# Altium schematic symbol library Driver_Motor.SchLib: 73 symbols
Pins are listed as number, name and electrical type; pins without a type are passive.

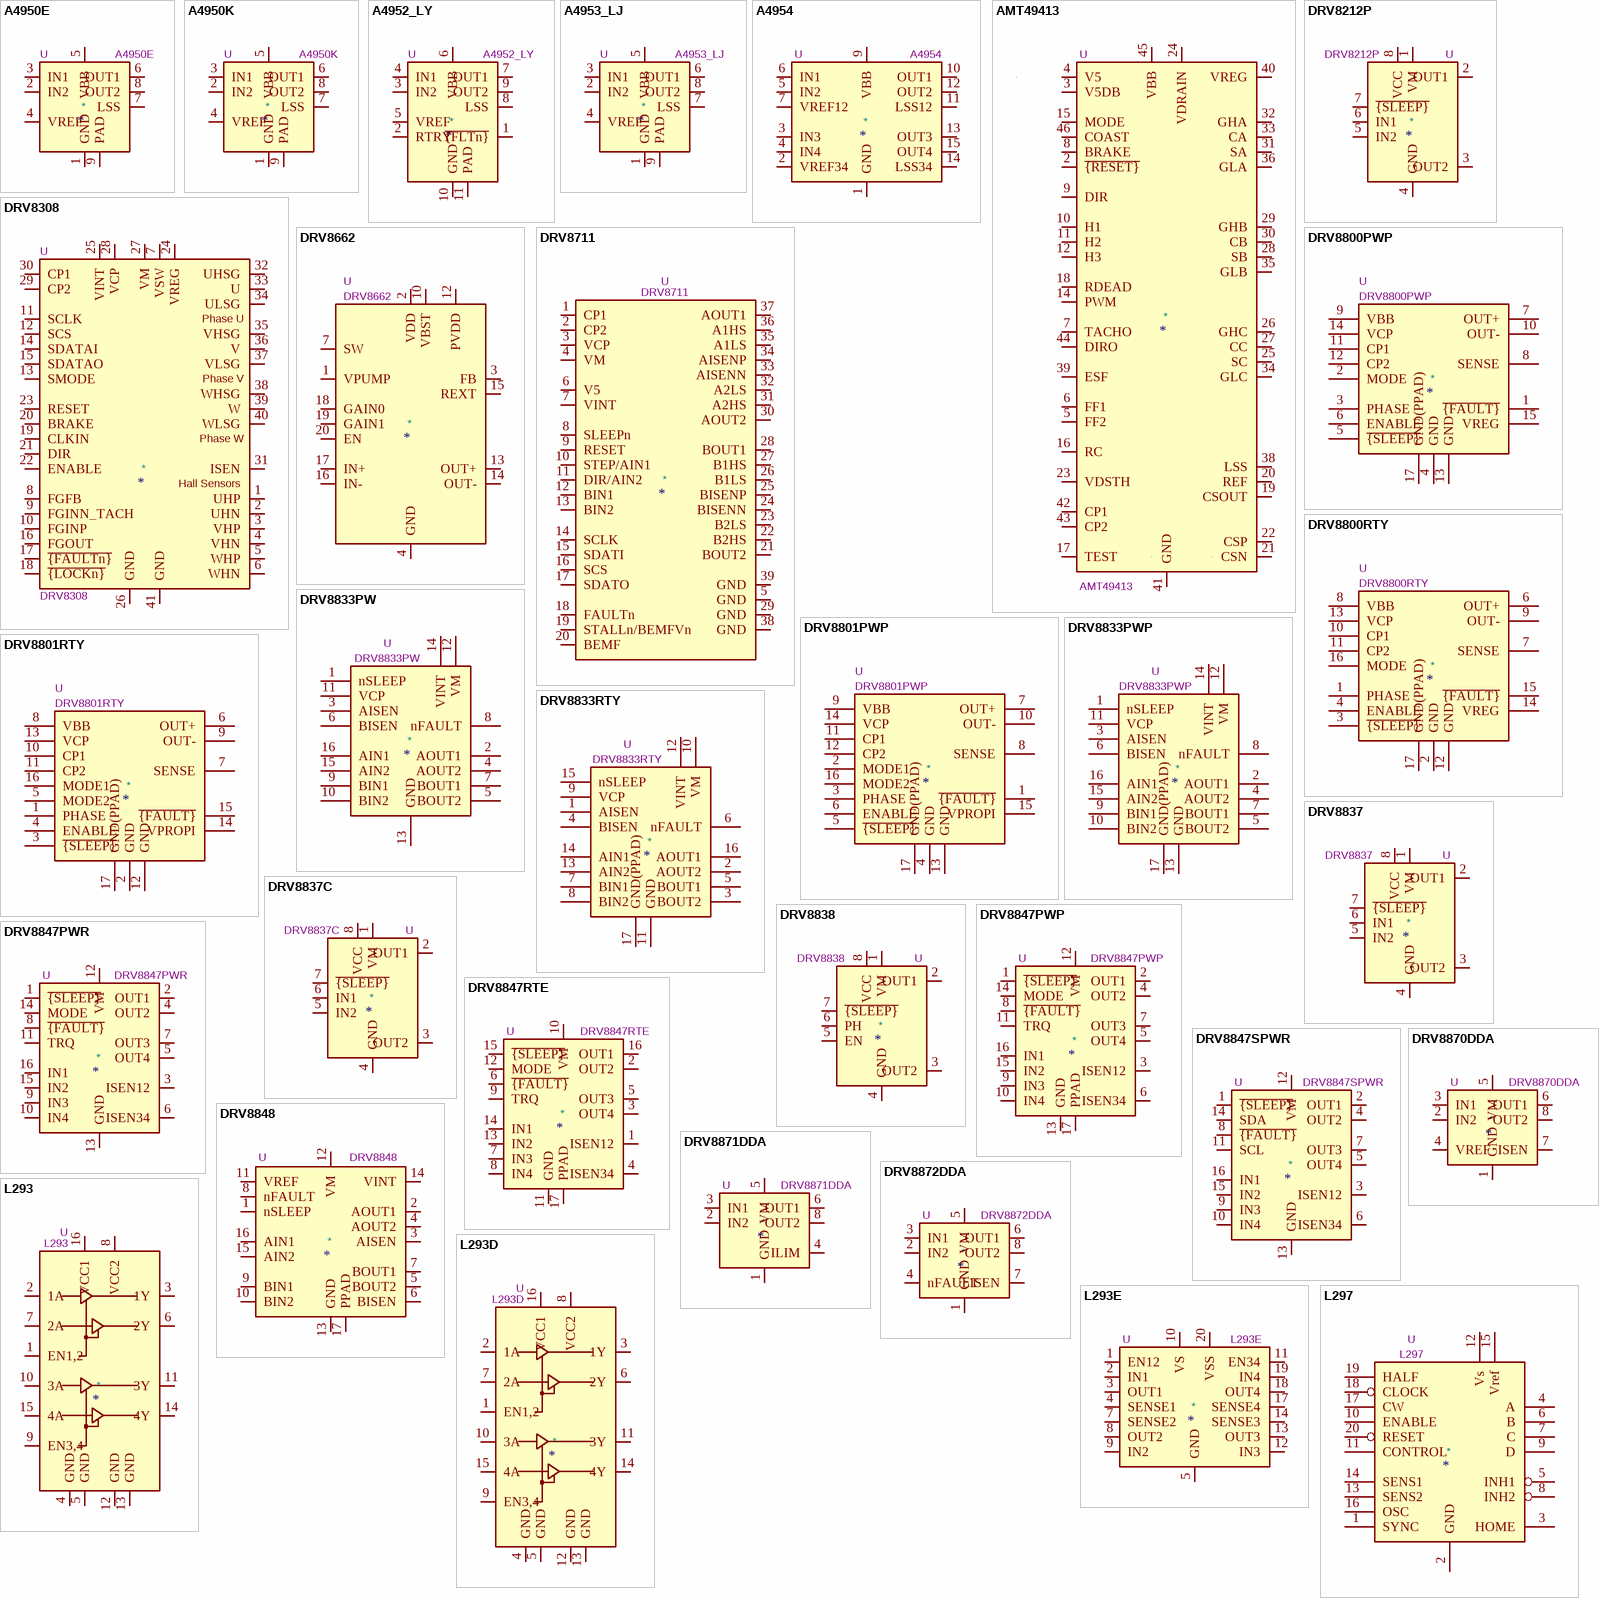
[diagram p0: symbols A4950E to L297]

## A4950E
designator *  value A4950E  Reference: U
ki_keywords: full-bridge h-bridge; ki_description: Full-Bridge, DMOS PWM, Motor Driver, 40V, 3.5A, -40 to +85C; ki_fp_filters: SOIC-*1EP*; Footprint: Package_SO:SOIC-8-1EP_3.9x4.9mm_P1.27mm_EP2.41x3.3mm; Datasheet: http://www.allegromicro.com/~/media/Files/Datasheets/A4950-Datasheet.ashx
pins: 1 GND, 2 IN2, 3 IN1, 4 VREF, 5 VBB, 6 OUT1, 7 LSS, 8 OUT2, 9 PAD

## A4950K
designator *  value A4950K  Reference: U
ki_keywords: full-bridge h-bridge; ki_description: Full-Bridge, DMOS PWM, Motor Driver, 40V, 3.5A, -40 to +125C; ki_fp_filters: SOIC-*1EP*; Footprint: Package_SO:SOIC-8-1EP_3.9x4.9mm_P1.27mm_EP2.41x3.3mm; Datasheet: http://www.allegromicro.com/~/media/Files/Datasheets/A4950-Datasheet.ashx
pins: 1 GND, 2 IN2, 3 IN1, 4 VREF, 5 VBB, 6 OUT1, 7 LSS, 8 OUT2, 9 PAD

## A4952_LY
designator *  value A4952_LY  Reference: U
ki_keywords: Full-bridge h-bridge; ki_description: Full-Bridge, DMOS PWM, Motor Driver, 40V, 2A, MSOP-10; ki_fp_filters: MSOP*1EP*3x3mm*P0.5mm*; Footprint: Package_SO:MSOP-10-1EP_3x3mm_P0.5mm_EP1.73x1.98mm; Datasheet: www.allegromicro.com/~/media/Files/Datasheets/A4952-3-Datasheet.ashx?la=en
pins: 1 ~{{FLTn}}, 2 RTRY, 3 IN2, 4 IN1, 5 VREF, 6 VBB, 7 OUT1, 8 LSS, 9 OUT2, 10 GND, 11 PAD

## A4953_LJ
designator *  value A4953_LJ  Reference: U
ki_keywords: Full-bridge h-bridge; ki_description: Full-Bridge, DMOS PWM, Motor Driver, 40V, 2A, SOIC-8; ki_fp_filters: SOIC-*1EP*; Footprint: Package_SO:SOIC-8-1EP_3.9x4.9mm_P1.27mm_EP2.41x3.3mm; Datasheet: www.allegromicro.com/~/media/Files/Datasheets/A4952-3-Datasheet.ashx?la=en
pins: 1 GND, 2 IN2, 3 IN1, 4 VREF, 5 VBB, 6 OUT1, 7 LSS, 8 OUT2, 9 PAD

## A4954
designator *  value A4954  Reference: U
ki_keywords: Fullbridge, Stepper Driver; ki_description: Fullbridge PWM Motor Driver, UVLO, OCP, Current Limit, Short Circuit Protection, TSSOP-16; ki_fp_filters: TSSOP*1EP*4.4x5mm*P0.65mm*; Footprint: Package_SO:TSSOP-16-1EP_4.4x5mm_P0.65mm_EP3x3mm; Datasheet: https://www.allegromicro.com/-/media/Files/Datasheets/A4954-Datasheet.ashx
pins: 1 GND, 2 VREF34, 3 IN3, 4 IN4, 5 IN2, 6 IN1, 7 VREF12, 8 GND hidden, 9 VBB, 10 OUT1, 11 LSS12, 12 OUT2, 13 OUT3, 14 LSS34, 15 OUT4, 16 VBB hidden, 17 GND hidden

## AMT49413
designator *  value AMT49413  Reference: U
ki_keywords: BLDC 3-Phase; ki_description: 3-Phase BLDC Controller and MOSFET Driver, QFN-48; ki_fp_filters: QFN*1EP*7x7mm*P0.5mm*; Footprint: Package_DFN_QFN:QFN-48-1EP_7x7mm_P0.5mm_EP5.15x5.15mm_ThermalVias; Datasheet: https://www.allegromicro.com/-/media/Files/Datasheets/AMT49413-Datasheet.ashx
pins: 1 N.C. hidden, 2 ~{{RESET}}, 3 V5DB, 4 V5, 5 FF2, 6 FF1, 7 TACHO, 8 BRAKE, 9 DIR, 10 H1, 11 H2, 12 H3, 13 N.C. hidden, 14 PWM, 15 MODE, 16 RC, 17 TEST, 18 RDEAD, 19 CSOUT, 20 REF, 21 CSN, 22 CSP, 23 VDSTH, 24 VDRAIN, 25 SC, 26 GHC, 27 CC, 28 SB, 29 GHB, 30 CB, 31 SA, 32 GHA, 33 CA, 34 GLC, 35 GLB, 36 GLA, 37 N.C. hidden, 38 LSS, 39 ESF, 40 VREG, 41 GND, 42 CP1, 43 CP2, 44 DIRO, 45 VBB, 46 COAST, 47 N.C. hidden, 48 N.C. hidden, 49 GND hidden

## DRV8212P
designator *  value DRV8212P  Reference: U
ki_keywords: half bridge driver; ki_description: H-Bridge driver, 4A, Low Voltage, PWM input, WSON-8; ki_fp_filters: WSON*1EP*2x2mm*P0.5mm*; Footprint: Package_SON:WSON-8-1EP_2x2mm_P0.5mm_EP0.9x1.6mm_ThermalVias; Datasheet: https://www.ti.com/lit/ds/symlink/drv8212p.pdf
pins: 1 VM, 2 OUT1, 3 OUT2, 4 GND, 5 IN2, 6 IN1, 7 ~{{SLEEP}}, 8 VCC, 9 GND hidden

## DRV8308
designator *  value DRV8308  Reference: U
ki_keywords: bldc mosfet-driver hall-sensor; ki_description: Brushless DC motor controller, closed loop, hall sensor inputs, current limiting, SPI interface; ki_fp_filters: Texas*S*PVQFN*N40*3.52x2.62mm*; Footprint: Package_DFN_QFN:Texas_S-PVQFN-N40_EP3.52x2.62mm; Datasheet: http://www.ti.com/lit/ds/symlink/drv8308.pdf
pins: 1 UHP, 2 UHN, 3 VHP, 4 VHN, 5 WHP, 6 WHN, 7 VSW, 8 FGFB, 9 FGINN_TACH, 10 FGINP, 11 SCLK, 12 SCS, 13 SMODE, 14 SDATAI, 15 SDATAO, 16 FGOUT, 17 ~{{FAULTn}}, 18 ~{{LOCKn}}, 19 CLKIN, 20 BRAKE, 21 DIR, 22 ENABLE, 23 RESET, 24 VREG, 25 VINT, 26 GND, 27 VM, 28 VCP, 29 CP2, 30 CP1, 31 ISEN, 32 UHSG, 33 U, 34 ULSG, 35 VHSG, 36 V, 37 VLSG, 38 WHSG, 39 W, 40 WLSG, 41 GND
text: Phase U; Phase V; Phase W; Hall Sensors

## DRV8662
designator *  value DRV8662  Reference: U
ki_keywords: piezo driver boost; ki_description: Piezo Haptic Driver with Integrated Boost Converter; ki_fp_filters: Texas*S*PVQFN*EP2.7x2.7mm*ThermalVias*; Footprint: Package_DFN_QFN:Texas_S-PVQFN-N20_EP2.7x2.7mm_ThermalVias; Datasheet: http://www.ti.com/lit/ds/symlink/drv8662.pdf
pins: 1 VPUMP, 2 VDD, 3 FB, 4 GND, 5 GND hidden, 6 GND hidden, 7 SW, 8 SW hidden, 9 NC hidden, 10 VBST, 11 VBST hidden, 12 PVDD, 13 OUT+, 14 OUT-, 15 REXT, 16 IN-, 17 IN+, 18 GAIN0, 19 GAIN1, 20 EN, 21 GND hidden

## DRV8711
designator *  value DRV8711  Reference: U
ki_keywords: Stepper driver; ki_description: Stepper motor controller, external N-channel MOSFET, single bipolar stepper motor, dual brushed DC motors; ki_fp_filters: HTSSOP-38; Datasheet: http://www.ti.com/lit/ds/slvsc40f/slvsc40f.pdf
pins: 1 CP1, 2 CP2, 3 VCP, 4 VM, 5 GND, 6 V5, 7 VINT, 8 SLEEPn, 9 RESET, 10 STEP/AIN1, 11 DIR/AIN2, 12 BIN1, 13 BIN2, 14 SCLK, 15 SDATI, 16 SCS, 17 SDATO, 18 FAULTn, 19 STALLn/BEMFVn, 20 BEMF, 21 BOUT2, 22 B2HS, 23 B2LS, 24 BISENN, 25 BISENP, 26 B1LS, 27 B1HS, 28 BOUT1, 29 GND, 30 AOUT2, 31 A2HS, 32 A2LS, 33 AISENN, 34 AISENP, 35 A1LS, 36 A1HS, 37 AOUT1, 38 GND, 39 GND

## DRV8800PWP
designator *  value DRV8800PWP  Reference: U
ki_keywords: H-Bridge Motor Driver; ki_description: H-Bridge Motor Driver, TSSOP-16; ki_fp_filters: *TSSOP*4.4x5mm*P0.65mm*; Footprint: Package_SO:HTSSOP-16-1EP_4.4x5mm_P0.65mm_EP3.4x5mm_Mask3x3mm_ThermalVias; Datasheet: http://www.ti.com/lit/ds/symlink/drv8801.pdf
pins: 1 ~{{FAULT}}, 2 MODE, 3 PHASE, 4 GND, 5 ~{{SLEEP}}, 6 ENABLE, 7 OUT+, 8 SENSE, 9 VBB, 10 OUT-, 11 CP1, 12 CP2, 13 GND, 14 VCP, 15 VREG, 16 NC hidden, 17 GND(PPAD)

## DRV8800RTY
designator *  value DRV8800RTY  Reference: U
ki_keywords: H-Bridge Motor Driver; ki_description: H-Bridge Motor Driver, WQFN-16; ki_fp_filters: Texas*S?PWQFN?N*EP*; Footprint: Package_DFN_QFN:Texas_S-PWQFN-N16_EP2.1x2.1mm_ThermalVias; Datasheet: http://www.ti.com/lit/ds/symlink/drv8801.pdf
pins: 1 PHASE, 2 GND, 3 ~{{SLEEP}}, 4 ENABLE, 5 NC hidden, 6 OUT+, 7 SENSE, 8 VBB, 9 OUT-, 10 CP1, 11 CP2, 12 GND, 13 VCP, 14 VREG, 15 ~{{FAULT}}, 16 MODE, 17 GND(PPAD)

## DRV8801PWP
designator *  value DRV8801PWP  Reference: U
ki_keywords: H-Bridge Motor Driver; ki_description: H-Bridge Motor Driver, TSSOP-16; ki_fp_filters: *TSSOP*4.4x5mm*P0.65mm*; Footprint: Package_SO:HTSSOP-16-1EP_4.4x5mm_P0.65mm_EP3.4x5mm_Mask3x3mm_ThermalVias; Datasheet: http://www.ti.com/lit/ds/symlink/drv8801.pdf
pins: 1 ~{{FAULT}}, 2 MODE1, 3 PHASE, 4 GND, 5 ~{{SLEEP}}, 6 ENABLE, 7 OUT+, 8 SENSE, 9 VBB, 10 OUT-, 11 CP1, 12 CP2, 13 GND, 14 VCP, 15 VPROPI, 16 MODE2, 17 GND(PPAD)

## DRV8801RTY
designator *  value DRV8801RTY  Reference: U
ki_keywords: H-Bridge Motor Driver; ki_description: H-Bridge Motor Driver, WQFN-16; ki_fp_filters: Texas*S?PWQFN?N*EP*; Footprint: Package_DFN_QFN:Texas_S-PWQFN-N16_EP2.1x2.1mm_ThermalVias; Datasheet: http://www.ti.com/lit/ds/symlink/drv8801.pdf
pins: 1 PHASE, 2 GND, 3 ~{{SLEEP}}, 4 ENABLE, 5 MODE2, 6 OUT+, 7 SENSE, 8 VBB, 9 OUT-, 10 CP1, 11 CP2, 12 GND, 13 VCP, 14 VPROPI, 15 ~{{FAULT}}, 16 MODE1, 17 GND(PPAD)

## DRV8833PW
designator *  value DRV8833PW  Reference: U
ki_keywords: H-bridge motor driver; ki_description: Dual H-Bridge Motor Driver, TSSOP-16; ki_fp_filters: TSSOP-16*4.4x5mm*P0.65mm*; Footprint: Package_SO:TSSOP-16_4.4x5mm_P0.65mm; Datasheet: http://www.ti.com/lit/ds/symlink/drv8833.pdf
pins: 1 nSLEEP, 2 AOUT1, 3 AISEN, 4 AOUT2, 5 BOUT2, 6 BISEN, 7 BOUT1, 8 nFAULT, 9 BIN1, 10 BIN2, 11 VCP, 12 VM, 13 GND, 14 VINT, 15 AIN2, 16 AIN1

## DRV8833PWP
designator *  value DRV8833PWP  Reference: U
ki_keywords: H-bridge motor driver; ki_description: Dual H-Bridge Motor Driver, HTSSOP-16; ki_fp_filters: HTSSOP-16-1EP*4.4x5mm*P0.65mm*; Footprint: Package_SO:HTSSOP-16-1EP_4.4x5mm_P0.65mm_EP3.4x5mm_Mask2.46x2.31mm_ThermalVias; Datasheet: http://www.ti.com/lit/ds/symlink/drv8833.pdf
pins: 1 nSLEEP, 2 AOUT1, 3 AISEN, 4 AOUT2, 5 BOUT2, 6 BISEN, 7 BOUT1, 8 nFAULT, 9 BIN1, 10 BIN2, 11 VCP, 12 VM, 13 GND, 14 VINT, 15 AIN2, 16 AIN1, 17 GND(PPAD)

## DRV8833RTY
designator *  value DRV8833RTY  Reference: U
ki_keywords: H-bridge motor driver; ki_description: Dual H-Bridge Motor Driver, WQFN-16; ki_fp_filters: Texas*S?PWQFN?N*EP*; Footprint: Package_DFN_QFN:Texas_S-PWQFN-N16_EP2.1x2.1mm_ThermalVias; Datasheet: http://www.ti.com/lit/ds/symlink/drv8833.pdf
pins: 1 AISEN, 2 AOUT2, 3 BOUT2, 4 BISEN, 5 BOUT1, 6 nFAULT, 7 BIN1, 8 BIN2, 9 VCP, 10 VM, 11 GND, 12 VINT, 13 AIN2, 14 AIN1, 15 nSLEEP, 16 AOUT1, 17 GND(PPAD)

## DRV8837
designator *  value DRV8837  Reference: U
ki_keywords: half bridge driver; ki_description: H-Bridge driver, 1.8A, Low Voltage, PWM input, WSON-8; ki_fp_filters: WSON*1EP*2x2mm*P0.5mm*; Footprint: Package_SON:WSON-8-1EP_2x2mm_P0.5mm_EP0.9x1.6mm; Datasheet: http://www.ti.com/lit/ds/symlink/drv8837.pdf
pins: 1 VM, 2 OUT1, 3 OUT2, 4 GND, 5 IN2, 6 IN1, 7 ~{{SLEEP}}, 8 VCC, 9 GND hidden

## DRV8837C
designator *  value DRV8837C  Reference: U
ki_keywords: half bridge driver; ki_description: H-Bridge driver, 1A, Low Voltage, PWM input, WSON-8; ki_fp_filters: WSON*1EP*2x2mm*P0.5mm*; Footprint: Package_SON:WSON-8-1EP_2x2mm_P0.5mm_EP0.9x1.6mm; Datasheet: http://www.ti.com/lit/ds/symlink/drv8837c.pdf
pins: 1 VM, 2 OUT1, 3 OUT2, 4 GND, 5 IN2, 6 IN1, 7 ~{{SLEEP}}, 8 VCC, 9 GND hidden

## DRV8838
designator *  value DRV8838  Reference: U
ki_keywords: half bridge driver; ki_description: H-Bridge driver, 1.8A, Low Voltage, PH/EN input, WSON-8; ki_fp_filters: WSON*1EP*2x2mm*P0.5mm*; Footprint: Package_SON:WSON-8-1EP_2x2mm_P0.5mm_EP0.9x1.6mm; Datasheet: http://www.ti.com/lit/ds/symlink/drv8837.pdf
pins: 1 VM, 2 OUT1, 3 OUT2, 4 GND, 5 EN, 6 PH, 7 ~{{SLEEP}}, 8 VCC, 9 GND hidden

## DRV8847PWP
designator *  value DRV8847PWP  Reference: U
ki_keywords: Dual H-Bridge motor driver; ki_description: Dual H-Bridge Motor Driver, 1A, HTSSOP-16; ki_fp_filters: HTSSOP*1EP*4.4x5mm*P0.65mm*; Footprint: Package_SO:HTSSOP-16-1EP_4.4x5mm_P0.65mm_EP3.4x5mm_Mask2.46x2.31mm_ThermalVias; Datasheet: https://www.ti.com/lit/ds/symlink/drv8847.pdf
pins: 1 ~{{SLEEP}}, 2 OUT1, 3 ISEN12, 4 OUT2, 5 OUT4, 6 ISEN34, 7 OUT3, 8 ~{{FAULT}}, 9 IN3, 10 IN4, 11 TRQ, 12 VM, 13 GND, 14 MODE, 15 IN2, 16 IN1, 17 PPAD

## DRV8847PWR
designator *  value DRV8847PWR  Reference: U
ki_keywords: Dual H-Bridge motor driver; ki_description: Dual H-Bridge Motor Driver, 1A, TSSOP-16; ki_fp_filters: TSSOP*4.4x5mm*P0.65mm*; Footprint: Package_SO:TSSOP-16_4.4x5mm_P0.65mm; Datasheet: https://www.ti.com/lit/ds/symlink/drv8847.pdf
pins: 1 ~{{SLEEP}}, 2 OUT1, 3 ISEN12, 4 OUT2, 5 OUT4, 6 ISEN34, 7 OUT3, 8 ~{{FAULT}}, 9 IN3, 10 IN4, 11 TRQ, 12 VM, 13 GND, 14 MODE, 15 IN2, 16 IN1

## DRV8847RTE
designator *  value DRV8847RTE  Reference: U
ki_keywords: Dual H-Bridge motor driver; ki_description: Dual H-Bridge Motor Driver, 1A, WQFN-16; ki_fp_filters: QFN*1EP*3x3mm*P0.5mm*; Footprint: Package_DFN_QFN:QFN-16-1EP_3x3mm_P0.5mm_EP1.7x1.7mm_ThermalVias; Datasheet: https://www.ti.com/lit/ds/symlink/drv8847.pdf
pins: 1 ISEN12, 2 OUT2, 3 OUT4, 4 ISEN34, 5 OUT3, 6 ~{{FAULT}}, 7 IN3, 8 IN4, 9 TRQ, 10 VM, 11 GND, 12 MODE, 13 IN2, 14 IN1, 15 ~{{SLEEP}}, 16 OUT1, 17 PPAD

## DRV8847SPWR
designator *  value DRV8847SPWR  Reference: U
ki_keywords: Dual H-Bridge motor driver; ki_description: Dual H-Bridge Motor Driver, 1A, I2C Interface, TSSOP-16; ki_fp_filters: TSSOP*4.4x5mm*P0.65mm*; Footprint: Package_SO:TSSOP-16_4.4x5mm_P0.65mm; Datasheet: https://www.ti.com/lit/ds/symlink/drv8847.pdf
pins: 1 ~{{SLEEP}}, 2 OUT1, 3 ISEN12, 4 OUT2, 5 OUT4, 6 ISEN34, 7 OUT3, 8 ~{{FAULT}}, 9 IN3, 10 IN4, 11 SCL, 12 VM, 13 GND, 14 SDA, 15 IN2, 16 IN1

## DRV8848
designator *  value DRV8848  Reference: U
ki_keywords: Dual H-Bridge motor driver; ki_description: Dual H-Bridge motor driver, PWM controlled, single/dual brushed DC stepper, +2 to +18 VDD, TSSOP-16; ki_fp_filters: TSSOP*1EP*4.4x5mm*P0.65mm*; Footprint: Package_SO:TSSOP-16-1EP_4.4x5mm_P0.65mm; Datasheet: http://www.ti.com/lit/ds/symlink/drv8848.pdf
pins: 1 nSLEEP, 2 AOUT1, 3 AISEN, 4 AOUT2, 5 BOUT2, 6 BISEN, 7 BOUT1, 8 nFAULT, 9 BIN1, 10 BIN2, 11 VREF, 12 VM, 13 GND, 14 VINT, 15 AIN2, 16 AIN1, 17 PPAD

## DRV8870DDA
designator *  value DRV8870DDA  Reference: U
ki_keywords: H-bridge driver motor current limit; ki_description: Brushed DC Motor Driver, PWM Control, 45V, 3.6A, Dynamic current limiting, HTSOP-8; ki_fp_filters: Texas*HTSOP*1EP*3.9x4.9mm*P1.27mm*EP2.95x4.9mm*Mask2.4x3.1mm*; Footprint: Package_SO:Texas_HTSOP-8-1EP_3.9x4.9mm_P1.27mm_EP2.95x4.9mm_Mask2.4x3.1mm_ThermalVias; Datasheet: http://www.ti.com/lit/ds/symlink/drv8870.pdf
pins: 1 GND, 2 IN2, 3 IN1, 4 VREF, 5 VM, 6 OUT1, 7 ISEN, 8 OUT2, 9 GND hidden

## DRV8871DDA
designator *  value DRV8871DDA  Reference: U
ki_keywords: H-bridge driver motor current limit; ki_description: Brushed DC Motor Driver, PWM Control, 45V, 3.6A, Current limiting, HTSOP-8; ki_fp_filters: Texas*HTSOP*1EP*3.9x4.9mm*P1.27mm*EP2.95x4.9mm*Mask2.4x3.1mm*; Footprint: Package_SO:Texas_HTSOP-8-1EP_3.9x4.9mm_P1.27mm_EP2.95x4.9mm_Mask2.4x3.1mm_ThermalVias; Datasheet: http://www.ti.com/lit/ds/symlink/drv8871.pdf
pins: 1 GND, 2 IN2, 3 IN1, 4 ILIM, 5 VM, 6 OUT1, 7 GND hidden, 8 OUT2, 9 GND hidden

## DRV8872DDA
designator *  value DRV8872DDA  Reference: U
ki_keywords: H-bridge driver motor current limit; ki_description: Brushed DC Motor Driver, PWM Control, 45V, 3.6A, Current limiting, Fault Reporting, HTSOP-8; ki_fp_filters: Texas*HTSOP*1EP*3.9x4.9mm*P1.27mm*EP2.95x4.9mm*Mask2.4x3.1mm*; Footprint: Package_SO:Texas_HTSOP-8-1EP_3.9x4.9mm_P1.27mm_EP2.95x4.9mm_Mask2.4x3.1mm_ThermalVias; Datasheet: http://www.ti.com/lit/ds/symlink/drv8872.pdf
pins: 1 GND, 2 IN2, 3 IN1, 4 nFAULT, 5 VM, 6 OUT1, 7 ISEN, 8 OUT2, 9 GND hidden

## L293
designator *  value L293  Reference: U
ki_keywords: Half-H Driver Motor; ki_description: Quadruple Half-H Drivers; ki_fp_filters: DIP*W7.62mm*; Footprint: Package_DIP:DIP-16_W7.62mm; Datasheet: http://www.ti.com/lit/ds/symlink/l293.pdf
pins: 1 EN1,2, 2 1A, 3 1Y, 4 GND, 5 GND, 6 2Y, 7 2A, 8 VCC2, 9 EN3,4, 10 3A, 11 3Y, 12 GND, 13 GND, 14 4Y, 15 4A, 16 VCC1

## L293D
designator *  value L293D  Reference: U
ki_keywords: Half-H Driver Motor; ki_description: Quadruple Half-H Drivers; ki_fp_filters: DIP*W7.62mm*; Footprint: Package_DIP:DIP-16_W7.62mm; Datasheet: http://www.ti.com/lit/ds/symlink/l293.pdf
pins: 1 EN1,2, 2 1A, 3 1Y, 4 GND, 5 GND, 6 2Y, 7 2A, 8 VCC2, 9 EN3,4, 10 3A, 11 3Y, 12 GND, 13 GND, 14 4Y, 15 4A, 16 VCC1

## L293E
designator *  value L293E  Reference: U
ki_keywords: Half-H Driver Motor Sense; ki_description: Push-pull four-channel driver, DIP-20; ki_fp_filters: DIP*W7.62mm*; Footprint: Package_DIP:DIP-20_W7.62mm; Datasheet: https://www.st.com/resource/en/datasheet/l293e.pdf
pins: 1 EN12, 2 IN1, 3 OUT1, 4 SENSE1, 5 GND, 6 GND hidden, 7 SENSE2, 8 OUT2, 9 IN2, 10 VS, 11 EN34, 12 IN3, 13 OUT3, 14 SENSE3, 15 GND hidden, 16 GND hidden, 17 SENSE4, 18 OUT4, 19 IN4, 20 VSS

## L297
designator *  value L297  Reference: U
ki_keywords: Stepper Motor Controller; ki_description: Stepper Motor Controller, DIP-20/SO-20; ki_fp_filters: DIP* SO*; Datasheet: www.st.com/resource/en/datasheet/cd00000063.pdf
pins: 1 SYNC, 2 GND, 3 HOME, 4 A, 5 INH1, 6 B, 7 C, 8 INH2, 9 D, 10 ENABLE, 11 CONTROL, 12 Vs, 13 SENS2, 14 SENS1, 15 Vref, 16 OSC, 17 CW, 18 CLOCK, 19 HALF, 20 RESET

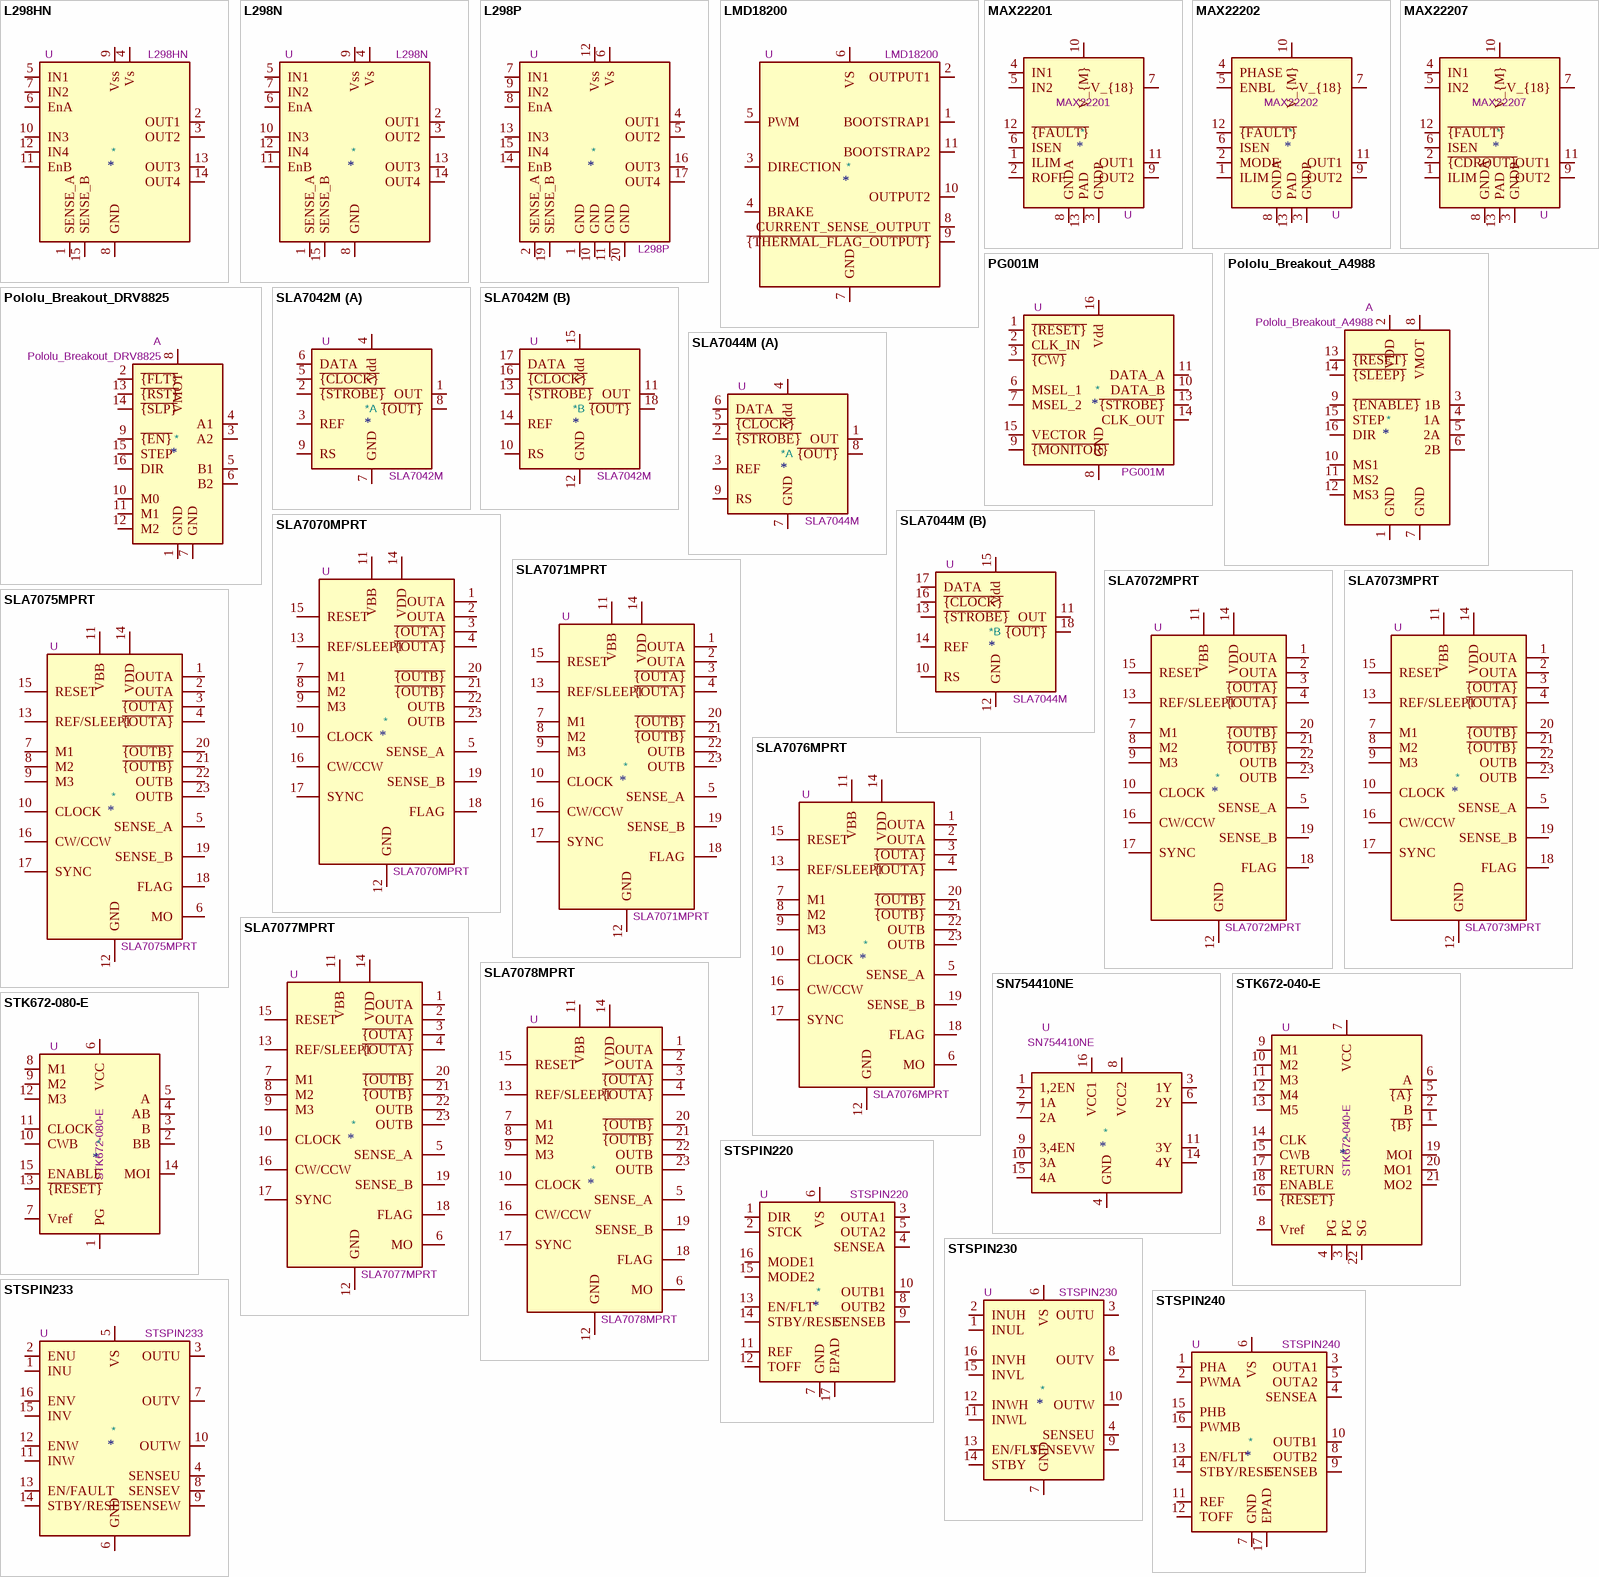
[diagram p1: symbols L298HN to STSPIN240]

## L298HN
designator *  value L298HN  Reference: U
ki_keywords: H-bridge motor driver; ki_description: Dual full bridge motor driver, up to 46V, 4A, Multiwatt15-H; ki_fp_filters: TO?220*StaggerOdd*TabDown*; Footprint: Package_TO_SOT_THT:TO-220-15_P2.54x2.54mm_StaggerOdd_Lead5.84mm_TabDown; Datasheet: http://www.st.com/st-web-ui/static/active/en/resource/technical/document/datasheet/CD00000240.pdf
pins: 1 SENSE_A, 2 OUT1, 3 OUT2, 4 Vs, 5 IN1, 6 EnA, 7 IN2, 8 GND, 9 Vss, 10 IN3, 11 EnB, 12 IN4, 13 OUT3, 14 OUT4, 15 SENSE_B

## L298N
designator *  value L298N  Reference: U
ki_keywords: H-bridge motor driver; ki_description: Dual full bridge motor driver, up to 46V, 4A, Multiwatt15-V; ki_fp_filters: TO?220*StaggerOdd*Vertical*; Footprint: Package_TO_SOT_THT:TO-220-15_P2.54x2.54mm_StaggerOdd_Lead4.58mm_Vertical; Datasheet: http://www.st.com/st-web-ui/static/active/en/resource/technical/document/datasheet/CD00000240.pdf
pins: 1 SENSE_A, 2 OUT1, 3 OUT2, 4 Vs, 5 IN1, 6 EnA, 7 IN2, 8 GND, 9 Vss, 10 IN3, 11 EnB, 12 IN4, 13 OUT3, 14 OUT4, 15 SENSE_B

## L298P
designator *  value L298P  Reference: U
ki_keywords: H-bridge motor driver; ki_description: Dual full bridge motor driver, up to 46V, 4A; Datasheet: http://www.st.com/st-web-ui/static/active/en/resource/technical/document/datasheet/CD00000240.pdf
pins: 1 GND, 2 SENSE_A, 3 NC hidden, 4 OUT1, 5 OUT2, 6 Vs, 7 IN1, 8 EnA, 9 IN2, 10 GND, 11 GND, 12 Vss, 13 IN3, 14 EnB, 15 IN4, 16 OUT3, 17 OUT4, 18 NC hidden, 19 SENSE_B, 20 GND

## LMD18200
designator *  value LMD18200  Reference: U
ki_keywords: H-Bridge DC stepper servo motor driver Motion Control Applications; ki_description: 3A, 55V H-Bridge, Motion Control Applications, TO-220-11; ki_fp_filters: TO?220*; Footprint: Package_TO_SOT_THT:TO-220-11_P3.4x5.08mm_StaggerOdd_Lead4.85mm_Vertical; Datasheet: http://www.ti.com/lit/ds/symlink/lmd18200.pdf
pins: 1 BOOTSTRAP1, 2 OUTPUT1, 3 DIRECTION, 4 BRAKE, 5 PWM, 6 VS, 7 GND, 8 CURRENT_SENSE_OUTPUT, 9 ~{{THERMAL_FLAG_OUTPUT}}, 10 OUTPUT2, 11 BOOTSTRAP2

## MAX22201
designator *  value MAX22201  Reference: U
ki_keywords: Brushed Motor Driver; ki_description: 36V, 3.5A Brushed Motor Driver with Integrated Current Sense and Configurable Off Time, 12-TDFN; ki_fp_filters: Maxim*TDFN*12*1EP*3x3mm*P0.5mm*EP1.7x2.5mm*; Footprint: Package_DFN_QFN:Maxim_TDFN-12-1EP_3x3mm_P0.5mm_EP1.7x2.5mm_ThermalVias; Datasheet: https://www.analog.com/media/en/technical-documentation/data-sheets/max22201-max22207.pdf
pins: 1 ILIM, 2 ROFF, 3 GNDP, 4 IN1, 5 IN2, 6 ISEN, 7 V_{18}, 8 GNDA, 9 OUT2, 10 V_{M}, 11 OUT1, 12 ~{{FAULT}}, 13 PAD

## MAX22202
designator *  value MAX22202  Reference: U
ki_keywords: Brushed Motor Driver; ki_description: 36V, 3.5A Brushed Motor Driver with Integrated Current Sense and Enable/Phase Inputs, 12-TDFN; ki_fp_filters: Maxim*TDFN*12*1EP*3x3mm*P0.5mm*EP1.7x2.5mm*; Footprint: Package_DFN_QFN:Maxim_TDFN-12-1EP_3x3mm_P0.5mm_EP1.7x2.5mm_ThermalVias; Datasheet: https://www.analog.com/media/en/technical-documentation/data-sheets/max22201-max22207.pdf
pins: 1 ILIM, 2 MODE, 3 GNDP, 4 PHASE, 5 ENBL, 6 ISEN, 7 V_{18}, 8 GNDA, 9 OUT2, 10 V_{M}, 11 OUT1, 12 ~{{FAULT}}, 13 PAD

## MAX22207
designator *  value MAX22207  Reference: U
ki_keywords: Brushed Motor Driver; ki_description: 36V, 3.5A Brushed Motor Driver with Integrated Current Sense and Current Driver Regulation output, 12-TDFN; ki_fp_filters: Maxim*TDFN*12*1EP*3x3mm*P0.5mm*EP1.7x2.5mm*; Footprint: Package_DFN_QFN:Maxim_TDFN-12-1EP_3x3mm_P0.5mm_EP1.7x2.5mm_ThermalVias; Datasheet: https://www.analog.com/media/en/technical-documentation/data-sheets/max22201-max22207.pdf
pins: 1 ILIM, 2 ~{{CDROUT}}, 3 GNDP, 4 IN1, 5 IN2, 6 ISEN, 7 V_{18}, 8 GNDA, 9 OUT2, 10 V_{M}, 11 OUT1, 12 ~{{FAULT}}, 13 PAD

## PG001M
designator *  value PG001M  Reference: U
ki_keywords: Support IC for SLA7042M/SLA7044M; ki_description: Parallel to serial data converter for SLA7042M/SLA7044M; ki_fp_filters: DIP* PDIP*; Datasheet: http://www.allegromicro.com/~/media/Files/Sanken/Datasheets/PG001M-Datasheet.ashx
pins: 1 ~{{RESET}}, 2 CLK_IN, 3 ~{{CW}}, 6 MSEL_1, 7 MSEL_2, 8 GND, 9 ~{{MONITOR}}, 10 DATA_B, 11 DATA_A, 13 ~{{STROBE}}, 14 CLK_OUT, 15 VECTOR, 16 Vdd

## Pololu_Breakout_A4988
designator *  value Pololu_Breakout_A4988  Reference: A
ki_keywords: Pololu Breakout Board Stepper Driver A4988; ki_description: Pololu Breakout Board, Stepper Driver A4988; ki_fp_filters: Pololu*Breakout*15.2x20.3mm*; Footprint: Module:Pololu_Breakout-16_15.2x20.3mm; Datasheet: https://www.pololu.com/product/2980/pictures
pins: 1 GND, 2 VDD, 3 1B, 4 1A, 5 2A, 6 2B, 7 GND, 8 VMOT, 9 ~{{ENABLE}}, 10 MS1, 11 MS2, 12 MS3, 13 ~{{RESET}}, 14 ~{{SLEEP}}, 15 STEP, 16 DIR

## Pololu_Breakout_DRV8825
designator *  value Pololu_Breakout_DRV8825  Reference: A
ki_keywords: Pololu Breakout Board Stepper Driver DRV8825; ki_description: Pololu Breakout Board, Stepper Driver DRV8825; ki_fp_filters: Pololu*Breakout*15.2x20.3mm*; Footprint: Module:Pololu_Breakout-16_15.2x20.3mm; Datasheet: https://www.pololu.com/product/2982
pins: 1 GND, 2 ~{{FLT}}, 3 A2, 4 A1, 5 B1, 6 B2, 7 GND, 8 VMOT, 9 ~{{EN}}, 10 M0, 11 M1, 12 M2, 13 ~{{RST}}, 14 ~{{SLP}}, 15 STEP, 16 DIR

## SLA7042M
designator *  value SLA7042M  Reference: U
ki_keywords: Stepper driver; ki_description: Unipolar PWM high-current motor driver; ki_fp_filters: SLA704XM; Datasheet: www.sumzi.com/upload/files/2007/07/2007073114282034189.PDF
part A pins: 1 OUT, 2 ~{{STROBE}}, 3 REF, 4 Vdd, 5 ~{{CLOCK}}, 6 DATA, 7 GND, 8 ~{{OUT}}, 9 RS
part B pins: 10 RS, 11 OUT, 12 GND, 13 ~{{STROBE}}, 14 REF, 15 Vdd, 16 ~{{CLOCK}}, 17 DATA, 18 ~{{OUT}}

## SLA7044M
designator *  value SLA7044M  Reference: U
ki_keywords: Stepper driver; ki_description: Unipolar PWM high-current motor driver; ki_fp_filters: SLA704XM; Datasheet: http://www.sumzi.com/upload/files/2007/07/2007073114282034189.PDF
part A pins: 1 OUT, 2 ~{{STROBE}}, 3 REF, 4 Vdd, 5 ~{{CLOCK}}, 6 DATA, 7 GND, 8 ~{{OUT}}, 9 RS
part B pins: 10 RS, 11 OUT, 12 GND, 13 ~{{STROBE}}, 14 REF, 15 Vdd, 16 ~{{CLOCK}}, 17 DATA, 18 ~{{OUT}}

## SLA7070MPRT
designator *  value SLA7070MPRT  Reference: U
ki_keywords: Stepper driver; ki_description: Unipolar 2-phase stepper motor driver, Full and Half step, 1A; ki_fp_filters: ZIP23; Datasheet: http://www.semicon.sanken-ele.co.jp/sk_content/sla7070mprt_ds_en.pdf
pins: 1 OUTA, 2 OUTA, 3 ~{{OUTA}}, 4 ~{{OUTA}}, 5 SENSE_A, 6 N.C. hidden, 7 M1, 8 M2, 9 M3, 10 CLOCK, 11 VBB, 12 GND, 13 REF/SLEEP1, 14 VDD, 15 RESET, 16 CW/CCW, 17 SYNC, 18 FLAG, 19 SENSE_B, 20 ~{{OUTB}}, 21 ~{{OUTB}}, 22 OUTB, 23 OUTB

## SLA7071MPRT
designator *  value SLA7071MPRT  Reference: U
ki_keywords: Stepper driver; ki_description: Unipolar 2-phase stepper motor driver, Full and Half step, 1.5A; ki_fp_filters: ZIP23; Datasheet: http://www.semicon.sanken-ele.co.jp/sk_content/sla7071mprt_ds_en.pdf
pins: 1 OUTA, 2 OUTA, 3 ~{{OUTA}}, 4 ~{{OUTA}}, 5 SENSE_A, 6 N.C. hidden, 7 M1, 8 M2, 9 M3, 10 CLOCK, 11 VBB, 12 GND, 13 REF/SLEEP1, 14 VDD, 15 RESET, 16 CW/CCW, 17 SYNC, 18 FLAG, 19 SENSE_B, 20 ~{{OUTB}}, 21 ~{{OUTB}}, 22 OUTB, 23 OUTB

## SLA7072MPRT
designator *  value SLA7072MPRT  Reference: U
ki_keywords: Stepper driver; ki_description: Unipolar 2-phase stepper motor driver, Full and Half step, 2A; ki_fp_filters: ZIP23; Datasheet: http://www.semicon.sanken-ele.co.jp/sk_content/sla7072mprt_ds_en.pdf
pins: 1 OUTA, 2 OUTA, 3 ~{{OUTA}}, 4 ~{{OUTA}}, 5 SENSE_A, 6 N.C. hidden, 7 M1, 8 M2, 9 M3, 10 CLOCK, 11 VBB, 12 GND, 13 REF/SLEEP1, 14 VDD, 15 RESET, 16 CW/CCW, 17 SYNC, 18 FLAG, 19 SENSE_B, 20 ~{{OUTB}}, 21 ~{{OUTB}}, 22 OUTB, 23 OUTB

## SLA7073MPRT
designator *  value SLA7073MPRT  Reference: U
ki_keywords: Stepper driver; ki_description: Unipolar 2-phase stepper motor driver, Full and Half step, 3A; ki_fp_filters: ZIP23; Datasheet: http://www.semicon.sanken-ele.co.jp/sk_content/sla7073mprt_ds_en.pdf
pins: 1 OUTA, 2 OUTA, 3 ~{{OUTA}}, 4 ~{{OUTA}}, 5 SENSE_A, 6 N.C. hidden, 7 M1, 8 M2, 9 M3, 10 CLOCK, 11 VBB, 12 GND, 13 REF/SLEEP1, 14 VDD, 15 RESET, 16 CW/CCW, 17 SYNC, 18 FLAG, 19 SENSE_B, 20 ~{{OUTB}}, 21 ~{{OUTB}}, 22 OUTB, 23 OUTB

## SLA7075MPRT
designator *  value SLA7075MPRT  Reference: U
ki_keywords: Stepper driver; ki_description: Unipolar 2-phase stepper motor driver, Microstep, 1A; ki_fp_filters: ZIP23; Datasheet: http://www.semicon.sanken-ele.co.jp/sk_content/sla7075mprt_ds_en.pdf
pins: 1 OUTA, 2 OUTA, 3 ~{{OUTA}}, 4 ~{{OUTA}}, 5 SENSE_A, 6 MO, 7 M1, 8 M2, 9 M3, 10 CLOCK, 11 VBB, 12 GND, 13 REF/SLEEP1, 14 VDD, 15 RESET, 16 CW/CCW, 17 SYNC, 18 FLAG, 19 SENSE_B, 20 ~{{OUTB}}, 21 ~{{OUTB}}, 22 OUTB, 23 OUTB

## SLA7076MPRT
designator *  value SLA7076MPRT  Reference: U
ki_keywords: Stepper driver; ki_description: Unipolar 2-phase stepper motor driver, Microstep, 1.5A; ki_fp_filters: ZIP23; Datasheet: http://www.semicon.sanken-ele.co.jp/sk_content/sla7076mprt_ds_en.pdf
pins: 1 OUTA, 2 OUTA, 3 ~{{OUTA}}, 4 ~{{OUTA}}, 5 SENSE_A, 6 MO, 7 M1, 8 M2, 9 M3, 10 CLOCK, 11 VBB, 12 GND, 13 REF/SLEEP1, 14 VDD, 15 RESET, 16 CW/CCW, 17 SYNC, 18 FLAG, 19 SENSE_B, 20 ~{{OUTB}}, 21 ~{{OUTB}}, 22 OUTB, 23 OUTB

## SLA7077MPRT
designator *  value SLA7077MPRT  Reference: U
ki_keywords: Stepper driver; ki_description: Unipolar 2-phase stepper motor driver, Microstep, 2A; ki_fp_filters: ZIP23; Datasheet: http://www.semicon.sanken-ele.co.jp/sk_content/sla7077mprt_ds_en.pdf
pins: 1 OUTA, 2 OUTA, 3 ~{{OUTA}}, 4 ~{{OUTA}}, 5 SENSE_A, 6 MO, 7 M1, 8 M2, 9 M3, 10 CLOCK, 11 VBB, 12 GND, 13 REF/SLEEP1, 14 VDD, 15 RESET, 16 CW/CCW, 17 SYNC, 18 FLAG, 19 SENSE_B, 20 ~{{OUTB}}, 21 ~{{OUTB}}, 22 OUTB, 23 OUTB

## SLA7078MPRT
designator *  value SLA7078MPRT  Reference: U
ki_keywords: Stepper driver; ki_description: Unipolar 2-phase stepper motor driver, Microstep, 3A; ki_fp_filters: ZIP23; Datasheet: http://www.semicon.sanken-ele.co.jp/sk_content/sla7078mprt_ds_en.pdf
pins: 1 OUTA, 2 OUTA, 3 ~{{OUTA}}, 4 ~{{OUTA}}, 5 SENSE_A, 6 MO, 7 M1, 8 M2, 9 M3, 10 CLOCK, 11 VBB, 12 GND, 13 REF/SLEEP1, 14 VDD, 15 RESET, 16 CW/CCW, 17 SYNC, 18 FLAG, 19 SENSE_B, 20 ~{{OUTB}}, 21 ~{{OUTB}}, 22 OUTB, 23 OUTB

## SN754410NE
designator *  value SN754410NE  Reference: U
ki_keywords: h-bridge motor driver; ki_description: Quadruple Half-H Driver, DIP-16; ki_fp_filters: DIP*W7.62mm*; Footprint: Package_DIP:DIP-16_W7.62mm; Datasheet: https://www.ti.com/lit/ds/symlink/sn754410.pdf
pins: 1 1,2EN, 2 1A, 3 1Y, 4 GND, 5 GND hidden, 6 2Y, 7 2A, 8 VCC2, 9 3,4EN, 10 3A, 11 3Y, 12 GND hidden, 13 GND hidden, 14 4Y, 15 4A, 16 VCC1

## STK672-040-E
designator *  value STK672-040-E  Reference: U
ki_keywords: Stepper driver; ki_description: Stepper motor driver with microstepping controller, 1.5A; Datasheet: http://www.onsemi.com/pub_link/Collateral/EN5227-D.PDF; ki_fp_filters: STK672-040-E
pins: 1 ~{{B}}, 2 B, 3 PG, 4 PG, 5 ~{{A}}, 6 A, 7 VCC, 8 Vref, 9 M1, 10 M2, 11 M3, 12 M4, 13 M5, 14 CLK, 15 CWB, 16 ~{{RESET}}, 17 RETURN, 18 ENABLE, 19 MOI, 20 MO1, 21 MO2, 22 SG

## STK672-080-E
designator *  value STK672-080-E  Reference: U
ki_keywords: Stepper driver; ki_description: Stepper motor driver with microstepping controller, 2.8A; Datasheet: http://www.onsemi.com/pub_link/Collateral/EN6507-D.PDF; ki_fp_filters: STK672-080-E
pins: 1 PG, 2 BB, 3 B, 4 AB, 5 A, 6 VCC, 7 Vref, 8 M1, 9 M2, 10 CWB, 11 CLOCK, 12 M3, 13 ~{{RESET}}, 14 MOI, 15 ENABLE

## STSPIN220
designator *  value STSPIN220  Reference: U
ki_keywords: motor driver stepper; ki_description: Low voltage stepper motor driver, 1.8V to 10V input, 1.3Arms output, 0.4Ω Rdson per phase (typical), QFN-16 package; ki_fp_filters: VQFN*1EP*3x3mm*P0.5mm*; Footprint: Package_DFN_QFN:VQFN-16-1EP_3x3mm_P0.5mm_EP1.8x1.8mm; Datasheet: www.st.com/resource/en/datasheet/stspin220.pdf
pins: 1 DIR, 2 STCK, 3 OUTA1, 4 SENSEA, 5 OUTA2, 6 VS, 7 GND, 8 OUTB2, 9 SENSEB, 10 OUTB1, 11 REF, 12 TOFF, 13 EN/FLT, 14 STBY/RESET, 15 MODE2, 16 MODE1, 17 EPAD

## STSPIN230
designator *  value STSPIN230  Reference: U
ki_keywords: motor driver half-bridge; ki_description: Low voltage triple half-bridge motor driver, 1.8V to 10V input, 1.3Arms output, 0.4Ω Rdson per phase (typical), QFN-16 package; ki_fp_filters: VQFN*1EP*3x3mm*P0.5mm*; Footprint: Package_DFN_QFN:VQFN-16-1EP_3x3mm_P0.5mm_EP1.8x1.8mm; Datasheet: www.st.com/resource/en/datasheet/stspin230.pdf
pins: 1 INUL, 2 INUH, 3 OUTU, 4 SENSEU, 5 NC hidden, 6 VS, 7 GND, 8 OUTV, 9 SENSEVW, 10 OUTW, 11 INWL, 12 INWH, 13 EN/FLT, 14 STBY, 15 INVL, 16 INVH, 17 GND hidden

## STSPIN233
designator *  value STSPIN233  Reference: U
ki_keywords: motor driver half-bridge; ki_description: Low voltage three phase and three sense motor driver, 1.8V to 10V input, 1.3Arms output, 0.4Ω Rdson per phase (typical), QFN-16 package; ki_fp_filters: VQFN*1EP*3x3mm*P0.5mm*; Footprint: Package_DFN_QFN:VQFN-16-1EP_3x3mm_P0.5mm_EP1.8x1.8mm; Datasheet: www.st.com/resource/en/datasheet/stspin233.pdf
pins: 1 INU, 2 ENU, 3 OUTU, 4 SENSEU, 5 VS, 6 GND, 7 OUTV, 8 SENSEV, 9 SENSEW, 10 OUTW, 11 INW, 12 ENW, 13 EN/FAULT, 14 STBY/RESET, 15 INV, 16 ENV, 17 GND hidden

## STSPIN240
designator *  value STSPIN240  Reference: U
ki_keywords: motor driver dc brushed; ki_description: Low voltage dual brush DC motor driver, 1.8V to 10V input, 1.3Arms output, 0.4Ω Rdson per phase (typical), QFN-16 package; ki_fp_filters: VQFN*1EP*3x3mm*P0.5mm*; Footprint: Package_DFN_QFN:VQFN-16-1EP_3x3mm_P0.5mm_EP1.8x1.8mm; Datasheet: www.st.com/resource/en/datasheet/stspin240.pdf
pins: 1 PHA, 2 PWMA, 3 OUTA1, 4 SENSEA, 5 OUTA2, 6 VS, 7 GND, 8 OUTB2, 9 SENSEB, 10 OUTB1, 11 REF, 12 TOFF, 13 EN/FLT, 14 STBY/RESET, 15 PHB, 16 PWMB, 17 EPAD

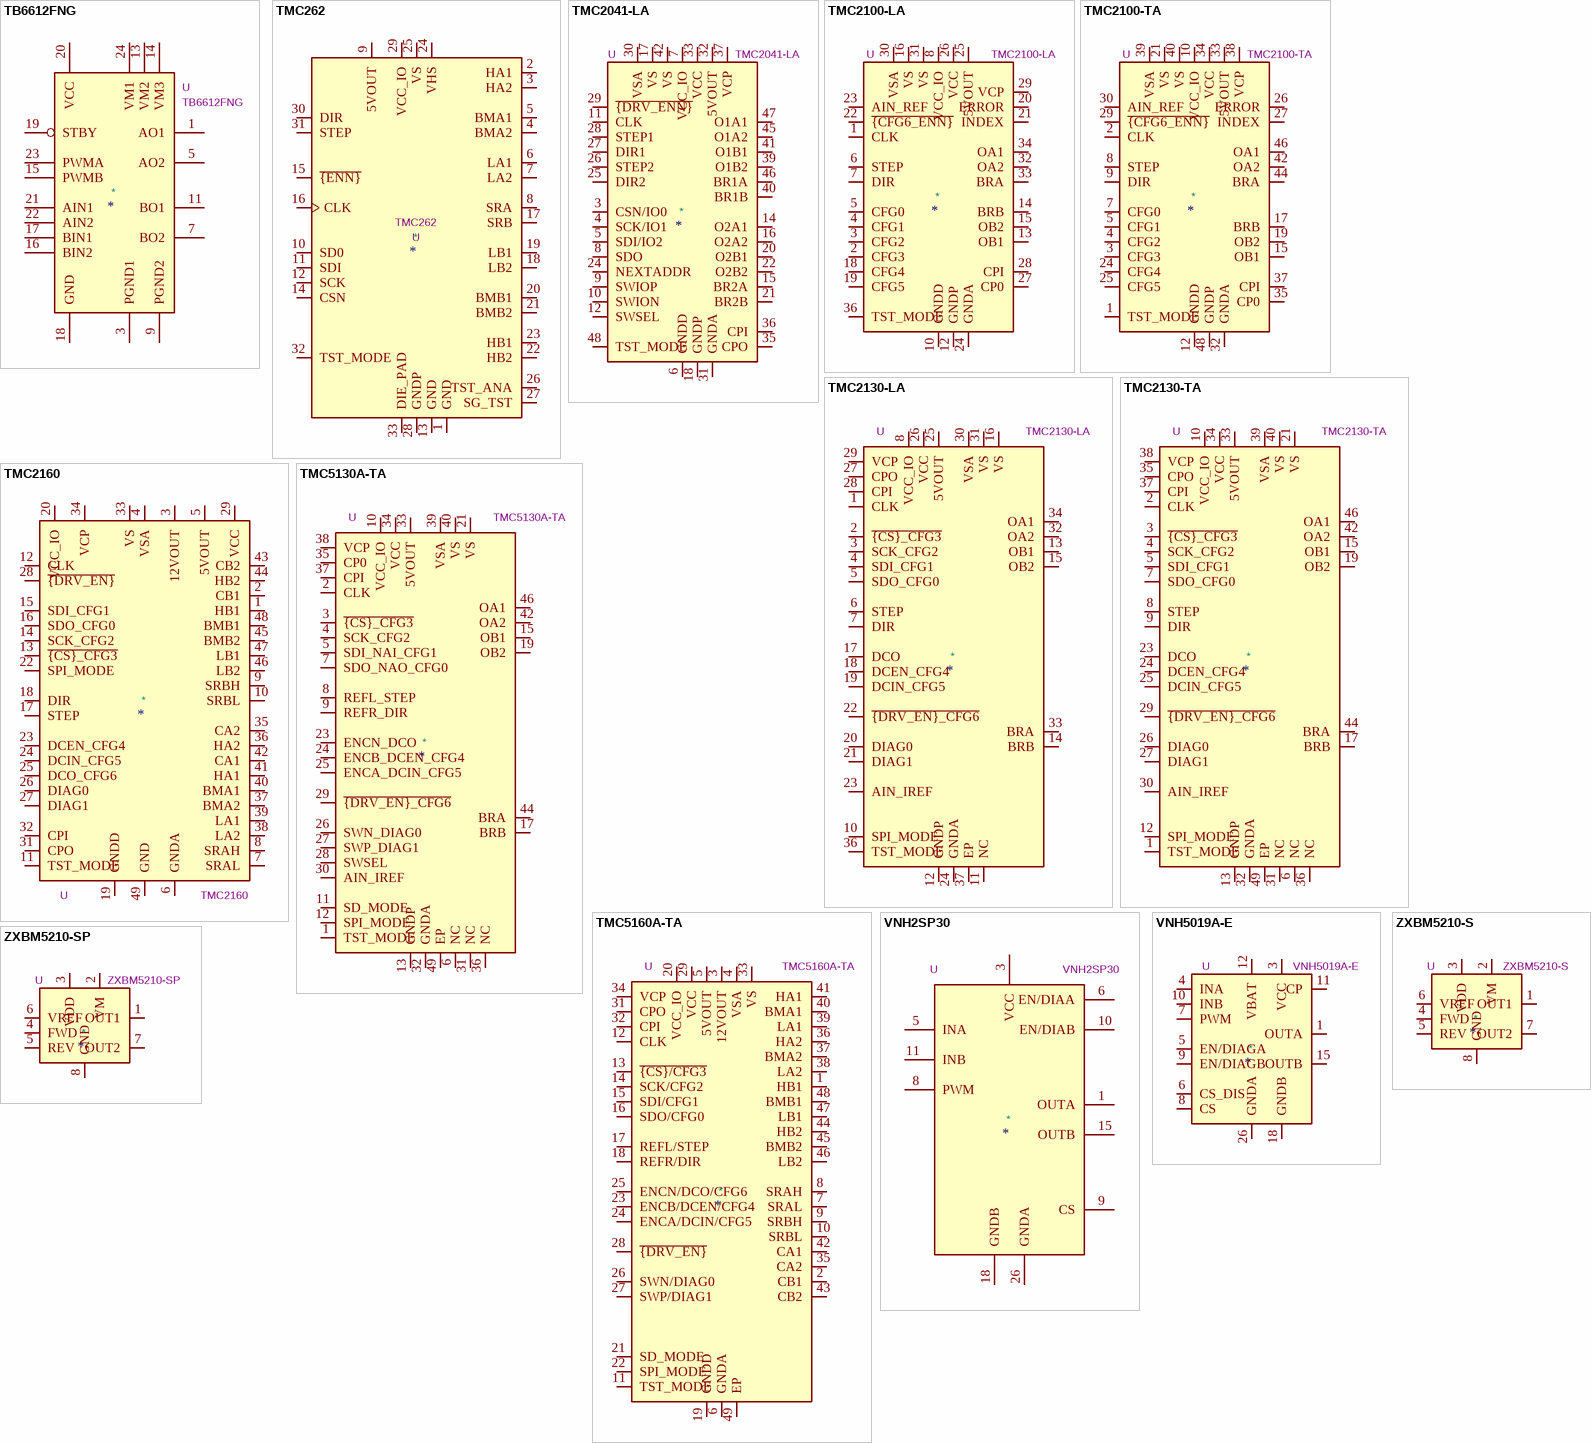
[diagram p2: symbols TB6612FNG to ZXBM5210-SP]

## TB6612FNG
designator *  value TB6612FNG  Reference: U
ki_keywords: H-bridge motor driver; ki_description: Driver IC for Dual DC motor, SSOP-24; ki_fp_filters: SSOP-24*5.3x8.2mm*P0.65mm*; Footprint: Package_SO:SSOP-24_5.3x8.2mm_P0.65mm; Datasheet: https://toshiba.semicon-storage.com/us/product/linear/motordriver/detail.TB6612FNG.html
pins: 1 AO1, 2 AO1 hidden, 3 PGND1, 4 PGND1 hidden, 5 AO2, 6 AO2 hidden, 7 BO2, 8 BO2 hidden, 9 PGND2, 10 PGND2 hidden, 11 BO1, 12 BO1 hidden, 13 VM2, 14 VM3, 15 PWMB, 16 BIN2, 17 BIN1, 18 GND, 19 STBY, 20 VCC, 21 AIN1, 22 AIN2, 23 PWMA, 24 VM1

## TMC262
designator *  value TMC262  Reference: U
ki_keywords: trinamic tlc262 stepper; ki_description: Driver for two-phase stepper motors with external mosfet; ki_fp_filters: QFN*1EP*5x5mm*P0.5mm*; Footprint: Package_DFN_QFN:QFN-32-1EP_5x5mm_P0.5mm_EP3.45x3.45mm; Datasheet: https://www.trinamic.com/fileadmin/assets/Products/ICs_Documents/TMC262_Datasheet.pdf
pins: 1 GND, 2 HA1, 3 HA2, 4 BMA2, 5 BMA1, 6 LA1, 7 LA2, 8 SRA, 9 5VOUT, 10 SD0, 11 SDI, 12 SCK, 13 GND, 14 CSN, 15 ~{{ENN}}, 16 CLK, 17 SRB, 18 LB2, 19 LB1, 20 BMB1, 21 BMB2, 22 HB2, 23 HB1, 24 VHS, 25 VS, 26 TST_ANA, 27 SG_TST, 28 GNDP, 29 VCC_IO, 30 DIR, 31 STEP, 32 TST_MODE, 33 DIE_PAD

## TMC2041-LA
designator *  value TMC2041-LA  Reference: U
ki_keywords: Dual driver stepper motor; ki_description: Standalone Dual driver for two-phase bipolar stepper motor, 2.2A, 4.75-26V, SPI, UART, QFN-48; ki_fp_filters: QFN*1EP*7x7mm*P0.5mm*; Footprint: Package_DFN_QFN:QFN-48-1EP_7x7mm_P0.5mm_EP5.3x5.3mm_ThermalVias; Datasheet: https://www.trinamic.com/fileadmin/assets/Products/ICs_Documents/TMC2041_datasheet.pdf
pins: 1 GNDD hidden, 2 GNDD hidden, 3 CSN/IO0, 4 SCK/IO1, 5 SDI/IO2, 6 GNDD, 7 VCC_IO, 8 SDO, 9 SWIOP, 10 SWION, 11 CLK, 12 SWSEL, 13 GNDD hidden, 14 O2A1, 15 BR2A, 16 O2A2, 17 VS, 18 GNDP, 19 VS hidden, 20 O2B1, 21 BR2B, 22 O2B2, 23 GNDD hidden, 24 NEXTADDR, 25 DIR2, 26 STEP2, 27 DIR1, 28 STEP1, 29 ~{{DRV_ENN}}, 30 VSA, 31 GNDA, 32 5VOUT, 33 VCC, 34 GNDD hidden, 35 CPO, 36 CPI, 37 VCP, 38 GNDD hidden, 39 O1B2, 40 BR1B, 41 O1B1, 42 VS, 43 GNDP hidden, 44 VS hidden, 45 O1A2, 46 BR1A, 47 O1A1, 48 TST_MODE, 49 GNDD hidden

## TMC2100-LA
designator *  value TMC2100-LA  Reference: U
ki_keywords: Driver stepper motor; ki_description: Standalone driver for two-phase bipolar stepper motor, 2.0A, 4.75-46V, QFN-36; ki_fp_filters: QFN*1EP*5x6mm*P0.5mm*; Footprint: Package_DFN_QFN:QFN-36-1EP_5x6mm_P0.5mm_EP3.6x4.1mm_ThermalVias; Datasheet: https://www.trinamic.com/fileadmin/assets/Products/ICs_Documents/TMC2100_datasheet_Rev1.08.pdf
pins: 1 CLK, 2 CFG3, 3 CFG2, 4 CFG1, 5 CFG0, 6 STEP, 7 DIR, 8 VCC_IO, 9 DNC hidden, 10 GNDD, 11 GNDD hidden, 12 GNDP, 13 OB1, 14 BRB, 15 OB2, 16 VS, 17 DNC hidden, 18 CFG4, 19 CFG5, 20 ERROR, 21 INDEX, 22 ~{{CFG6_ENN}}, 23 AIN_REF, 24 GNDA, 25 5VOUT, 26 VCC, 27 CP0, 28 CPI, 29 VCP, 30 VSA, 31 VS, 32 OA2, 33 BRA, 34 OA1, 35 GNDP hidden, 36 TST_MODE, 37 GNDD hidden

## TMC2100-TA
designator *  value TMC2100-TA  Reference: U
ki_keywords: Standalone driver stepper motor; ki_description: Standalone driver for two-phase bipolar stepper motor, 2.0A, 4.75-46V, TQFP-48; ki_fp_filters: TQFP*1EP*7x7mm*P0.5mm*; Footprint: Package_QFP:TQFP-48-1EP_7x7mm_P0.5mm_EP5x5mm_ThermalVias; Datasheet: https://www.trinamic.com/fileadmin/assets/Products/ICs_Documents/TMC2100_datasheet_Rev1.08.pdf
pins: 1 TST_MODE, 2 CLK, 3 CFG3, 4 CFG2, 5 CFG1, 6 GNDD hidden, 7 CFG0, 8 STEP, 9 DIR, 10 VCC_IO, 11 DNC hidden, 12 GNDD, 13 GNDP hidden, 14 DNC hidden, 15 OB1, 16 DNC hidden, 17 BRB, 18 DNC hidden, 19 OB2, 20 DNC hidden, 21 VS, 22 DNC hidden, 23 DNC hidden, 24 CFG4, 25 CFG5, 26 ERROR, 27 INDEX, 28 DNC hidden, 29 ~{{CFG6_ENN}}, 30 AIN_REF, 31 GNDD hidden, 32 GNDA, 33 5VOUT, 34 VCC, 35 CP0, 36 GNDD hidden, 37 CPI, 38 VCP, 39 VSA, 40 VS, 41 DNC hidden, 42 OA2, 43 DNC hidden, 44 BRA, 45 DNC hidden, 46 OA1, 47 DNC hidden, 48 GNDP, 49 GNDD hidden

## TMC2130-LA
designator *  value TMC2130-LA  Reference: U
ki_keywords: stepper motor driver; ki_description: Driver for two-phase bipolar stepper motor, 2.0A, SPI, 4.75-46V, QFN-36; ki_fp_filters: QFN*1EP*5x6mm*P0.5mm*; Footprint: Package_DFN_QFN:QFN-36-1EP_5x6mm_P0.5mm_EP3.6x4.1mm; Datasheet: http://www.trinamic.com/fileadmin/assets/Products/ICs_Documents/TMC2130_datasheet.pdf
pins: 1 CLK, 2 ~{{CS}_CFG3}, 3 SCK_CFG2, 4 SDI_CFG1, 5 SDO_CFG0, 6 STEP, 7 DIR, 8 VCC_IO, 9 DNC hidden, 10 SPI_MODE, 11 NC, 12 GNDP, 13 OB1, 14 BRB, 15 OB2, 16 VS, 17 DCO, 18 DCEN_CFG4, 19 DCIN_CFG5, 20 DIAG0, 21 DIAG1, 22 ~{{DRV_EN}_CFG6}, 23 AIN_IREF, 24 GNDA, 25 5VOUT, 26 VCC, 27 CPO, 28 CPI, 29 VCP, 30 VSA, 31 VS, 32 OA2, 33 BRA, 34 OA1, 35 GNDP hidden, 36 TST_MODE, 37 EP

## TMC2130-TA
designator *  value TMC2130-TA  Reference: U
ki_keywords: stepper motor driver; ki_description: Driver for two-phase bipolar stepper motor, 2.0A, SPI, 4.75-46V, TQFP-48; ki_fp_filters: TQFP*1EP*7x7mm*P0.5mm*; Footprint: Package_QFP:TQFP-48-1EP_7x7mm_P0.5mm_EP5x5mm; Datasheet: http://www.trinamic.com/fileadmin/assets/Products/ICs_Documents/TMC2130_datasheet.pdf
pins: 1 TST_MODE, 2 CLK, 3 ~{{CS}_CFG3}, 4 SCK_CFG2, 5 SDI_CFG1, 6 NC, 7 SDO_CFG0, 8 STEP, 9 DIR, 10 VCC_IO, 11 DNC hidden, 12 SPI_MODE, 13 GNDP, 14 DNC hidden, 15 OB1, 16 DNC hidden, 17 BRB, 18 DNC hidden, 19 OB2, 20 DNC hidden, 21 VS, 22 DNC hidden, 23 DCO, 24 DCEN_CFG4, 25 DCIN_CFG5, 26 DIAG0, 27 DIAG1, 28 DNC hidden, 29 ~{{DRV_EN}_CFG6}, 30 AIN_IREF, 31 NC, 32 GNDA, 33 5VOUT, 34 VCC, 35 CPO, 36 NC, 37 CPI, 38 VCP, 39 VSA, 40 VS, 41 DNC hidden, 42 OA2, 43 DNC hidden, 44 BRA, 45 DNC hidden, 46 OA1, 47 DNC hidden, 48 GNDP hidden, 49 EP

## TMC2160
designator *  value TMC2160  Reference: U
ki_keywords: Standalone driver stepper motor; ki_description: Standalone driver for two-phase bipolar stepper motor, 8-60V, external FETs, TQFP48; ki_fp_filters: TQFP*1EP?7x7mm*P0.5mm*; Footprint: Package_QFP:TQFP-48-1EP_7x7mm_P0.5mm_EP5x5mm; Datasheet: https://www.trinamic.com/fileadmin/assets/Products/ICs_Documents/TMC2160A-datasheet_Rev1.06.pdf
pins: 1 HB1, 2 CB1, 3 12VOUT, 4 VSA, 5 5VOUT, 6 GNDA, 7 SRAL, 8 SRAH, 9 SRBH, 10 SRBL, 11 TST_MODE, 12 CLK, 13 ~{{CS}_CFG3}, 14 SCK_CFG2, 15 SDI_CFG1, 16 SDO_CFG0, 17 STEP, 18 DIR, 19 GNDD, 20 VCC_IO, 21 VCC_IO hidden, 22 SPI_MODE, 23 DCEN_CFG4, 24 DCIN_CFG5, 25 DCO_CFG6, 26 DIAG0, 27 DIAG1, 28 ~{{DRV_EN}}, 29 VCC, 30 GNDD hidden, 31 CPO, 32 CPI, 33 VS, 34 VCP, 35 CA2, 36 HA2, 37 BMA2, 38 LA2, 39 LA1, 40 BMA1, 41 HA1, 42 CA1, 43 CB2, 44 HB2, 45 BMB2, 46 LB2, 47 LB1, 48 BMB1, 49 GND

## TMC5130A-TA
designator *  value TMC5130A-TA  Reference: U
ki_keywords: Standalone driver stepper motor; ki_description: Power Driver For Stepper Motors, 2.0A, 4.75-46V, TQFP-48; ki_fp_filters: TQFP*1EP*7x7mm*P0.5mm*; Footprint: Package_QFP:TQFP-48-1EP_7x7mm_P0.5mm_EP5x5mm_ThermalVias; Datasheet: https://www.trinamic.com/fileadmin/assets/Products/ICs_Documents/TMC5130_datasheet_Rev1.17.pdf
pins: 1 TST_MODE, 2 CLK, 3 ~{{CS}_CFG3}, 4 SCK_CFG2, 5 SDI_NAI_CFG1, 6 NC, 7 SDO_NAO_CFG0, 8 REFL_STEP, 9 REFR_DIR, 10 VCC_IO, 11 SD_MODE, 12 SPI_MODE, 13 GNDP, 14 DNC hidden, 15 OB1, 16 DNC hidden, 17 BRB, 18 DNC hidden, 19 OB2, 20 DNC hidden, 21 VS, 22 DNC hidden, 23 ENCN_DCO, 24 ENCB_DCEN_CFG4, 25 ENCA_DCIN_CFG5, 26 SWN_DIAG0, 27 SWP_DIAG1, 28 SWSEL, 29 ~{{DRV_EN}_CFG6}, 30 AIN_IREF, 31 NC, 32 GNDA, 33 5VOUT, 34 VCC, 35 CP0, 36 NC, 37 CPI, 38 VCP, 39 VSA, 40 VS, 41 DNC hidden, 42 OA2, 43 DNC hidden, 44 BRA, 45 DNC hidden, 46 OA1, 47 DNC hidden, 48 GNDP hidden, 49 EP

## TMC5160A-TA
designator *  value TMC5160A-TA  Reference: U
ki_keywords: stepper motor driver trinamic; ki_description: 20A Driver for two-phase bipolar stepper motor, SPI, UART, TQFP-48; ki_fp_filters: TQFP*1EP*7x7mm*P0.5mm*; Footprint: Package_QFP:TQFP-48-1EP_7x7mm_P0.5mm_EP5x5mm_ThermalVias; Datasheet: https://www.trinamic.com/fileadmin/assets/Products/ICs_Documents/TMC5160A_Datasheet_Rev1.14.pdf
pins: 1 HB1, 2 CB1, 3 12VOUT, 4 VSA, 5 5VOUT, 6 GNDA, 7 SRAL, 8 SRAH, 9 SRBH, 10 SRBL, 11 TST_MODE, 12 CLK, 13 ~{{CS}/CFG3}, 14 SCK/CFG2, 15 SDI/CFG1, 16 SDO/CFG0, 17 REFL/STEP, 18 REFR/DIR, 19 GNDD, 20 VCC_IO, 21 SD_MODE, 22 SPI_MODE, 23 ENCB/DCEN/CFG4, 24 ENCA/DCIN/CFG5, 25 ENCN/DCO/CFG6, 26 SWN/DIAG0, 27 SWP/DIAG1, 28 ~{{DRV_EN}}, 29 VCC, 30 GNDD hidden, 31 CPO, 32 CPI, 33 VS, 34 VCP, 35 CA2, 36 HA2, 37 BMA2, 38 LA2, 39 LA1, 40 BMA1, 41 HA1, 42 CA1, 43 CB2, 44 HB2, 45 BMB2, 46 LB2, 47 LB1, 48 BMB1, 49 EP

## VNH2SP30
designator *  value VNH2SP30  Reference: U
ki_keywords: full-bridge h-bridge; ki_description: Full Bridge Motor Driver, 41V, 30A, -40 to 150C; ki_fp_filters: ST*MultiPowerSO*; Footprint: Package_SO:ST_MultiPowerSO-30; Datasheet: http://www.st.com/content/ccc/resource/technical/document/datasheet/group2/66/b8/f5/2c/9a/66/41/c7/CD00043711/files/CD00043711.pdf/jcr:content/translations/en.CD00043711.pdf
pins: 1 OUTA, 2 NC hidden, 3 VCC, 4 NC hidden, 5 INA, 6 EN/DIAA, 7 NC hidden, 8 PWM, 9 CS, 10 EN/DIAB, 11 INB, 12 NC hidden, 13 VCC hidden, 14 NC hidden, 15 OUTB, 16 OUTB hidden, 17 NC hidden, 18 GNDB, 19 GNDB hidden, 20 GNDB hidden, 21 OUTB hidden, 22 NC hidden, 23 VCC hidden, 24 NC hidden, 25 OUTA hidden, 26 GNDA, 27 GNDA hidden, 28 GNDA hidden, 29 NC hidden, 30 OUTA hidden, 31 VCC hidden, 32 OUTB hidden, 33 OUTA hidden

## VNH5019A-E
designator *  value VNH5019A-E  Reference: U
ki_keywords: full-bridge h-bridge; ki_description: Full Bridge Motor Driver, 41V, 30A, -40 to 150C, MultiPowerSO-30; ki_fp_filters: ST*MultiPowerSO*; Footprint: Package_SO:ST_MultiPowerSO-30; Datasheet: https://www.st.com/resource/en/datasheet/vnh5019a-e.pdf
pins: 1 OUTA, 2 NC hidden, 3 VCC, 4 INA, 5 EN/DIAGA, 6 CS_DIS, 7 PWM, 8 CS, 9 EN/DIAGB, 10 INB, 11 CP, 12 VBAT, 13 VCC hidden, 14 NC hidden, 15 OUTB, 16 OUTB hidden, 17 NC hidden, 18 GNDB, 19 GNDB hidden, 20 GNDB hidden, 21 OUTB hidden, 22 NC hidden, 23 VCC hidden, 24 NC hidden, 25 OUTA hidden, 26 GNDA, 27 GNDA hidden, 28 GNDA hidden, 29 NC hidden, 30 OUTA hidden, 31 VCC hidden, 32 OUTB hidden, 33 OUTA hidden

## ZXBM5210-S
designator *  value ZXBM5210-S  Reference: U
ki_keywords: H-bridge, motor driver, PWM, single coil; ki_description: Reversible DC motor drive with speed control, 3-18V, 0.85A, SOIC-8; ki_fp_filters: SOIC*3.9x4.9mm*P1.27mm*; Footprint: Package_SO:SOIC-8_3.9x4.9mm_P1.27mm; Datasheet: https://www.diodes.com/assets/Datasheets/ZXBM5210.pdf
pins: 1 OUT1, 2 VM, 3 VDD, 4 FWD, 5 REV, 6 VREF, 7 OUT2, 8 GND

## ZXBM5210-SP
designator *  value ZXBM5210-SP  Reference: U
ki_keywords: H-bridge, motor driver, PWM, single coil; ki_description: Reversible DC motor drive with speed control, 3-18V, 0.85A, SOIC-8EP; ki_fp_filters: Diodes*SO*EP*; Footprint: Package_SO:Diodes_SO-8EP; Datasheet: https://www.diodes.com/assets/Datasheets/ZXBM5210.pdf
pins: 1 OUT1, 2 VM, 3 VDD, 4 FWD, 5 REV, 6 VREF, 7 OUT2, 8 GND, 9 GND hidden